# Altium footprint library Footprint.PcbLib: 105 footprints (part 1 of 7)
Each footprint in its own frame and in the unit in brackets; x right, y up, seen from the top. Pads: shape width x height; smd on the part's side, far side on the other; paste and mask are expansions set on the pad; w line width, h text height; cw(c..) or ccw(c..) is an arc to the next point about the centre after c.
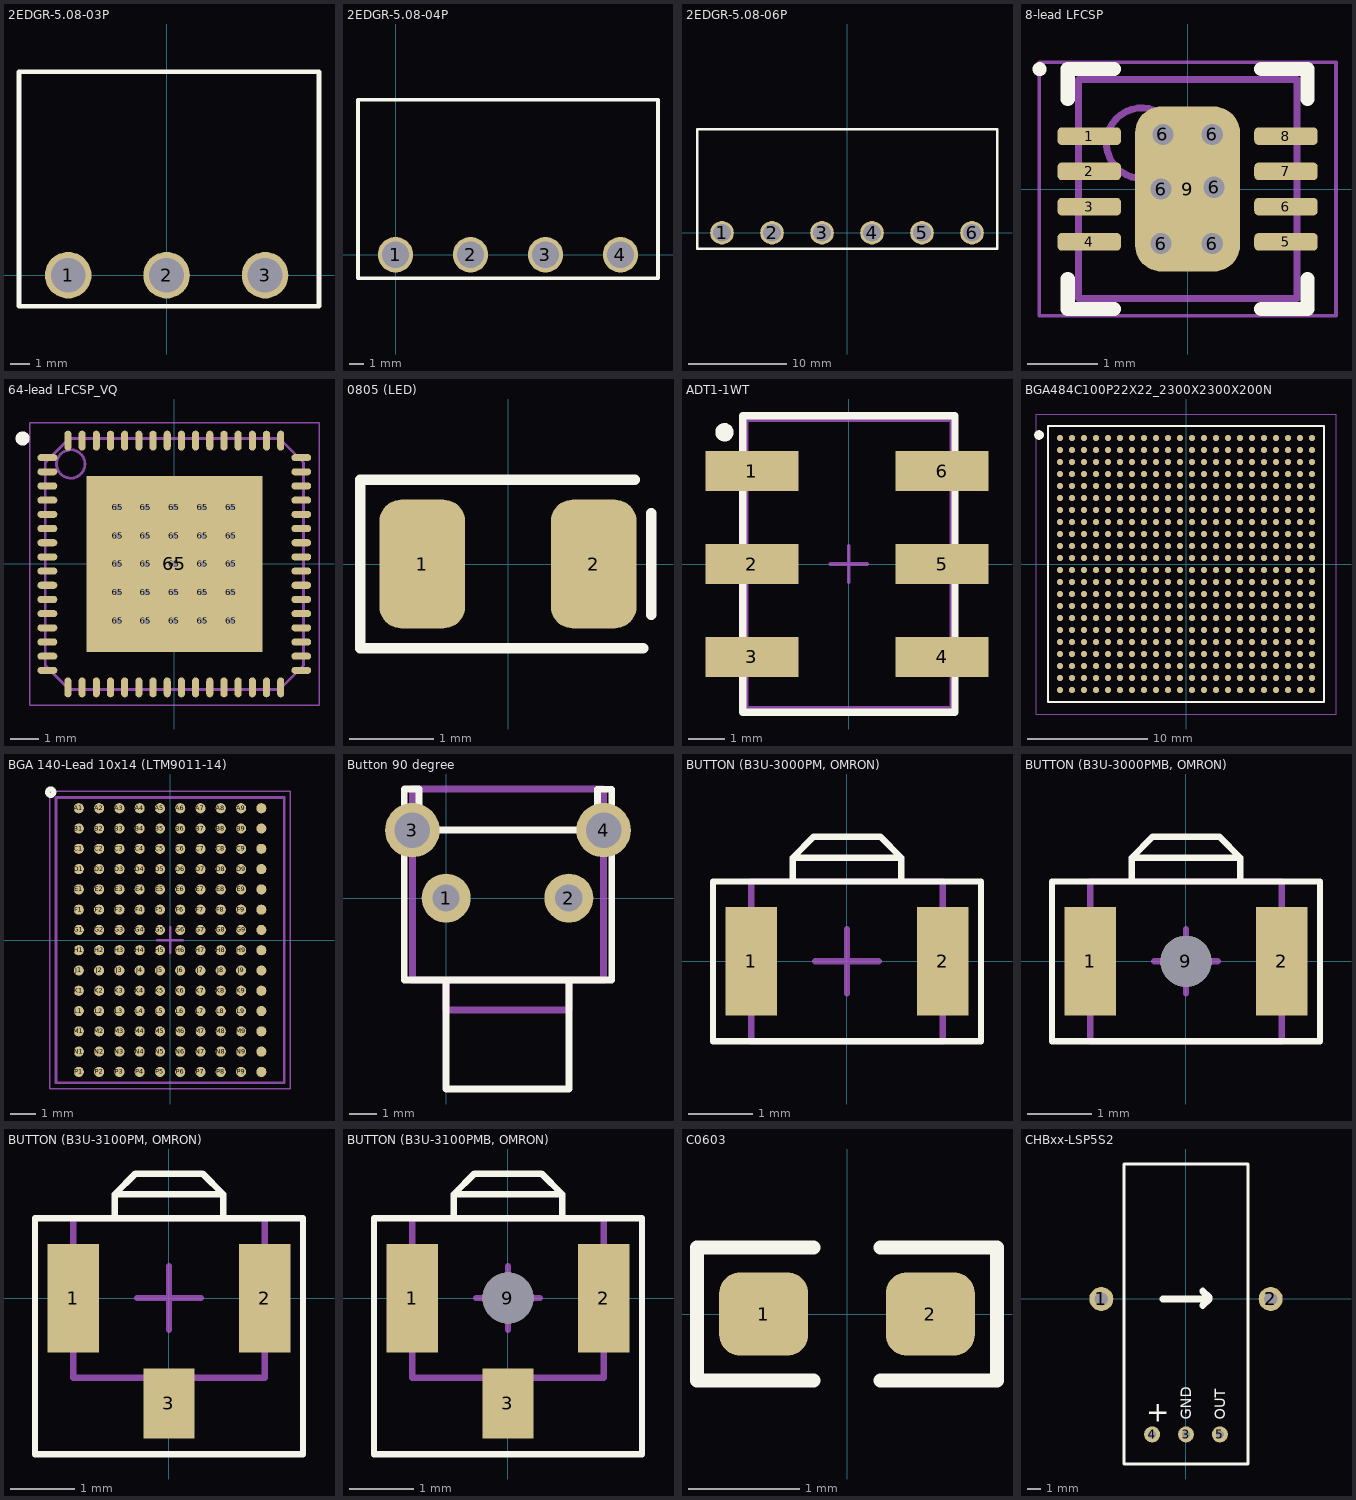
[diagram p0: the footprints below, top view; thin cyan lines are the x and y axes]

## 2EDGR-5.08-03P [mm]
pads (3):
  round 2.4 hole 1.8: 1(-5.08,0) 2(0,0) 3(5.08,0)
Top Overlay:
  lines w0.254: -7.62,-1.6 -7.62,10.5 7.86,10.5 7.86,-1.6 -7.62,-1.6

## 2EDGR-5.08-04P [mm]
pads (4):
  round 2.4 hole 1.8: 1(0,0) 2(5.08,0) 3(10.16,0) 4(15.24,0)
Top Overlay:
  lines w0.254: -2.54,-1.6 17.78,-1.6 17.78,10.5 -2.54,10.5 -2.54,-1.6

## 2EDGR-5.08-06P [mm]
pads (6):
  round 2.4 hole 1.8: 1(-12.7,0) 2(-7.62,0) 3(-2.54,0) 4(2.54,0) 5(7.62,0) 6(12.7,0)
Top Overlay:
  lines w0.254: -15.24,-1.6 15.24,-1.6 15.24,10.5 -15.24,10.5 -15.24,-1.6

## 8-lead LFCSP [mm] "SON, 8-Leads, Body 3.00x3.00mm, Pitch 0.50mm, Thermal Pad 2.34x1.49mm, IPC Medium Density"
height 0.8
pads (15):
  rrect50% 0.9x0.25 smd: 1(-1.395,0.75) 2(-1.395,0.25) 3(-1.395,-0.25) 4(-1.395,-0.75) 5(1.395,-0.75) 6(1.395,-0.25) 7(1.395,0.25) 8(1.395,0.75)
  round 0.7 hole 0.3: 6(-0.375,-0.775) 6(-0.375,0) 6(-0.35,0.775) 6(0.35,-0.775) 6(0.35,0.775) 6(0.375,0.025)
  rrect50% 1.49x2.34 smd: 9(0,0)
Top Overlay:
  circle w0.1: c-2.1,1.7 r0.05
  lines w0.2: -1.7,-1.275 -1.7,-1.7 -1.045,-1.7 ; -1.7,1.275 -1.7,1.7 -1.045,1.7 ; 1.045,-1.7 1.7,-1.7 1.7,-1.275 ; 1.045,1.7 1.7,1.7 1.7,1.275
Mechanical 13:
  circle w0.1: c-0.65,0.65 r0.5
  lines w0.1: -1.55,-1.55 1.55,-1.55 1.55,1.55 -1.55,1.55 -1.55,-1.55
Mechanical 15:
  lines w0.05: -2.105,-1.8 2.105,-1.8 2.105,1.8 -2.105,1.8 -2.105,-1.8
3D body: height 0.8, standoff 0.05, extent -1.55,-1.55 1.55,1.55

## 64-lead LFCSP_VQ [mm]
height 1
pads (90):
  oval 0.7x0.25 smd: 1(-4.475,3.75) 2(-4.475,3.25) 3(-4.475,2.75) 4(-4.475,2.25) 5(-4.475,1.75) 6(-4.475,1.25) 7(-4.475,0.75) 8(-4.475,0.25) 9(-4.475,-0.25) 10(-4.475,-0.75) 11(-4.475,-1.25) 12(-4.475,-1.75) 13(-4.475,-2.25) 14(-4.475,-2.75) 15(-4.475,-3.25) 16(-4.475,-3.75) 33(4.475,-3.75) 34(4.475,-3.25) 35(4.475,-2.75) 36(4.475,-2.25) 37(4.475,-1.75) 38(4.475,-1.25) 39(4.475,-0.75) 40(4.475,-0.25) 41(4.475,0.25) 42(4.475,0.75) 43(4.475,1.25) 44(4.475,1.75) 45(4.475,2.25) 46(4.475,2.75) 47(4.475,3.25) 48(4.475,3.75)
  oval 0.25x0.7 smd: 17(-3.75,-4.35) 18(-3.25,-4.35) 19(-2.75,-4.35) 20(-2.25,-4.35) 21(-1.75,-4.35) 22(-1.25,-4.35) 23(-0.75,-4.35) 24(-0.25,-4.35) 25(0.25,-4.35) 26(0.75,-4.35) 27(1.25,-4.35) 28(1.75,-4.35) 29(2.25,-4.35) 30(2.75,-4.35) 31(3.25,-4.35) 32(3.75,-4.35) 49(3.75,4.35) 50(3.25,4.35) 51(2.75,4.35) 52(2.25,4.35) 53(1.75,4.35) 54(1.25,4.35) 55(0.75,4.35) 56(0.25,4.35) 57(-0.25,4.35) 58(-0.75,4.35) 59(-1.25,4.35) 60(-1.75,4.35) 61(-2.25,4.35) 62(-2.75,4.35) 63(-3.25,4.35) 64(-3.75,4.35)
  round 0.5 hole 0.2: 65(-2,-2) 65(-2,-1) 65(-2,0) 65(-2,1) 65(-2,2) 65(-1,-2) 65(-1,-1) 65(-1,0) 65(-1,1) 65(-1,2) 65(0,-2) 65(0,-1) 65(0,0) 65(0,1) 65(0,2) 65(1,-2) 65(1,-1) 65(1,0) 65(1,1) 65(1,2) 65(2,-2) 65(2,-1) 65(2,0) 65(2,1) 65(2,2)
  rect 6.2x6.2 smd: 65(0,0)
Top Overlay:
  circle w0.25: c-5.35,4.425 r0.125
Mechanical 13:
  circle w0.1: c-3.65,3.525 r0.5
  lines w0.1: -4.55,-3.577 -4.55,3.577 -3.702,4.425 3.701,4.425 4.55,3.577 4.55,-3.577 3.701,-4.425 -3.702,-4.425 -4.55,-3.577
Mechanical 15:
  lines w0.05: -5.1,-4.975 5.1,-4.975 5.1,4.975 -5.1,4.975 -5.1,-4.975
  lines w0.1: -0.5,0 0.5,0 ; 0,-0.5 0,0.5
3D body: height 1, standoff 0.2, extent -4.55,-4.425 4.55,4.425

## 0805 (LED) [mil]
pads (2):
  rrect50% 40x60 smd: 1(-40,0) 2(40,0)
Top Overlay:
  lines w4.92: 59.06,39.37 -68.9,39.37 -68.9,-39.37 62.99,-39.37 ; 66.93,-23.62 66.93,23.62
3D body "Led 0805-Red.STEP": height 43.31, standoff 0, extent -39.77,-24.61 39.76,24.6

## ADT1-1WT [mm] "SOTFL, 6-Leads, Body 7.87x5.08mm, Pitch 2.54mm, IPC Medium Density"
height 2.84
pads (6):
  rect 2.54x1.1 smd: 1(-2.65,2.54) 2(-2.65,0) 3(-2.65,-2.54) 4(2.55,-2.54) 5(2.55,0) 6(2.55,2.54)
Top Overlay:
  circle w0.25: c-3.4,3.6 r0.125
  lines w0.2: -2.9,-4.05 -2.9,4.05 2.9,4.05 2.9,-4.05 -2.9,-4.05
Mechanical 13:
  lines w0.1: -2.795,-3.935 2.795,-3.935 2.795,3.935 -2.795,3.935 -2.795,-3.935
Mechanical 15:
  lines w0.05: -2.95,-4.1 2.95,-4.1 2.95,4.1 -2.95,4.1 -2.95,-4.1
  lines w0.1: -0.5,0 0.5,0 ; 0,-0.5 0,0.5
3D body: height 2.84, standoff 0, extent -2.795,-3.935 2.795,3.935

## BGA484C100P22X22_2300X2300X200N [mm]
pads (484):
  round 0.5 smd: A1(-10.5,10.5) A2(-9.5,10.5) A3(-8.5,10.5) A4(-7.5,10.5) A5(-6.5,10.5) A6(-5.5,10.5) A7(-4.5,10.5) A8(-3.5,10.5) A9(-2.5,10.5) A10(-1.5,10.5) A11(-0.5,10.5) A12(0.5,10.5) A13(1.5,10.5) A14(2.5,10.5) A15(3.5,10.5) A16(4.5,10.5) A17(5.5,10.5) A18(6.5,10.5) A19(7.5,10.5) A20(8.5,10.5) A21(9.5,10.5) A22(10.5,10.5) AA1(-10.5,-9.5) AA2(-9.5,-9.5) AA3(-8.5,-9.5) AA4(-7.5,-9.5) AA5(-6.5,-9.5) AA6(-5.5,-9.5) AA7(-4.5,-9.5) AA8(-3.5,-9.5) AA9(-2.5,-9.5) AA10(-1.5,-9.5) AA11(-0.5,-9.5) AA12(0.5,-9.5) AA13(1.5,-9.5) AA14(2.5,-9.5) AA15(3.5,-9.5) AA16(4.5,-9.5) AA17(5.5,-9.5) AA18(6.5,-9.5) AA19(7.5,-9.5) AA20(8.5,-9.5) AA21(9.5,-9.5) AA22(10.5,-9.5) AB1(-10.5,-10.5) AB2(-9.5,-10.5) AB3(-8.5,-10.5) AB4(-7.5,-10.5) AB5(-6.5,-10.5) AB6(-5.5,-10.5) AB7(-4.5,-10.5) AB8(-3.5,-10.5) AB9(-2.5,-10.5) AB10(-1.5,-10.5) AB11(-0.5,-10.5) AB12(0.5,-10.5) AB13(1.5,-10.5) AB14(2.5,-10.5) AB15(3.5,-10.5) AB16(4.5,-10.5) AB17(5.5,-10.5) AB18(6.5,-10.5) AB19(7.5,-10.5) AB20(8.5,-10.5) AB21(9.5,-10.5) AB22(10.5,-10.5) B1(-10.5,9.5) B2(-9.5,9.5) B3(-8.5,9.5) B4(-7.5,9.5) B5(-6.5,9.5) B6(-5.5,9.5) B7(-4.5,9.5) B8(-3.5,9.5) B9(-2.5,9.5) B10(-1.5,9.5) B11(-0.5,9.5) B12(0.5,9.5) B13(1.5,9.5) B14(2.5,9.5) B15(3.5,9.5) B16(4.5,9.5) B17(5.5,9.5) B18(6.5,9.5) B19(7.5,9.5) B20(8.5,9.5) B21(9.5,9.5) B22(10.5,9.5) C1(-10.5,8.5) C2(-9.5,8.5) C3(-8.5,8.5) C4(-7.5,8.5) C5(-6.5,8.5) C6(-5.5,8.5) C7(-4.5,8.5) C8(-3.5,8.5) C9(-2.5,8.5) C10(-1.5,8.5) C11(-0.5,8.5) C12(0.5,8.5) C13(1.5,8.5) C14(2.5,8.5) C15(3.5,8.5) C16(4.5,8.5) C17(5.5,8.5) C18(6.5,8.5) C19(7.5,8.5) C20(8.5,8.5) C21(9.5,8.5) C22(10.5,8.5) D1(-10.5,7.5) D2(-9.5,7.5) D3(-8.5,7.5) D4(-7.5,7.5) D5(-6.5,7.5) D6(-5.5,7.5) D7(-4.5,7.5) D8(-3.5,7.5) D9(-2.5,7.5) D10(-1.5,7.5) D11(-0.5,7.5) D12(0.5,7.5) D13(1.5,7.5) D14(2.5,7.5) D15(3.5,7.5) D16(4.5,7.5) D17(5.5,7.5) D18(6.5,7.5) D19(7.5,7.5) D20(8.5,7.5) D21(9.5,7.5) D22(10.5,7.5) E1(-10.5,6.5) E2(-9.5,6.5) E3(-8.5,6.5) E4(-7.5,6.5) E5(-6.5,6.5) E6(-5.5,6.5) E7(-4.5,6.5) E8(-3.5,6.5) E9(-2.5,6.5) E10(-1.5,6.5) E11(-0.5,6.5) E12(0.5,6.5) E13(1.5,6.5) E14(2.5,6.5) E15(3.5,6.5) E16(4.5,6.5) E17(5.5,6.5) E18(6.5,6.5) E19(7.5,6.5) E20(8.5,6.5) E21(9.5,6.5) E22(10.5,6.5) F1(-10.5,5.5) F2(-9.5,5.5) F3(-8.5,5.5) F4(-7.5,5.5) F5(-6.5,5.5) F6(-5.5,5.5) F7(-4.5,5.5) F8(-3.5,5.5) F9(-2.5,5.5) F10(-1.5,5.5) F11(-0.5,5.5) F12(0.5,5.5) F13(1.5,5.5) F14(2.5,5.5) F15(3.5,5.5) F16(4.5,5.5) F17(5.5,5.5) F18(6.5,5.5) F19(7.5,5.5) F20(8.5,5.5) F21(9.5,5.5) F22(10.5,5.5) G1(-10.5,4.5) G2(-9.5,4.5) G3(-8.5,4.5) G4(-7.5,4.5) G5(-6.5,4.5) G6(-5.5,4.5) G7(-4.5,4.5) G8(-3.5,4.5) G9(-2.5,4.5) G10(-1.5,4.5) G11(-0.5,4.5) G12(0.5,4.5) G13(1.5,4.5) G14(2.5,4.5) G15(3.5,4.5) G16(4.5,4.5) G17(5.5,4.5) G18(6.5,4.5) G19(7.5,4.5) G20(8.5,4.5) G21(9.5,4.5) G22(10.5,4.5) H1(-10.5,3.5) H2(-9.5,3.5) H3(-8.5,3.5) H4(-7.5,3.5) H5(-6.5,3.5) H6(-5.5,3.5) H7(-4.5,3.5) H8(-3.5,3.5) H9(-2.5,3.5) H10(-1.5,3.5) H11(-0.5,3.5) H12(0.5,3.5) H13(1.5,3.5) H14(2.5,3.5) H15(3.5,3.5) H16(4.5,3.5) H17(5.5,3.5) H18(6.5,3.5) H19(7.5,3.5) H20(8.5,3.5) H21(9.5,3.5) H22(10.5,3.5) J1(-10.5,2.5) J2(-9.5,2.5) J3(-8.5,2.5) J4(-7.5,2.5) J5(-6.5,2.5) J6(-5.5,2.5) J7(-4.5,2.5) J8(-3.5,2.5) J9(-2.5,2.5) J10(-1.5,2.5) J11(-0.5,2.5) J12(0.5,2.5) J13(1.5,2.5) J14(2.5,2.5) J15(3.5,2.5) J16(4.5,2.5) J17(5.5,2.5) J18(6.5,2.5) J19(7.5,2.5) J20(8.5,2.5) J21(9.5,2.5) J22(10.5,2.5) K1(-10.5,1.5) K2(-9.5,1.5) K3(-8.5,1.5) K4(-7.5,1.5) K5(-6.5,1.5) K6(-5.5,1.5) K7(-4.5,1.5) K8(-3.5,1.5) K9(-2.5,1.5) K10(-1.5,1.5) K11(-0.5,1.5) K12(0.5,1.5) K13(1.5,1.5) K14(2.5,1.5) K15(3.5,1.5) K16(4.5,1.5) K17(5.5,1.5) K18(6.5,1.5) K19(7.5,1.5) K20(8.5,1.5) K21(9.5,1.5) K22(10.5,1.5) L1(-10.5,0.5) L2(-9.5,0.5) L3(-8.5,0.5) L4(-7.5,0.5) L5(-6.5,0.5) L6(-5.5,0.5) L7(-4.5,0.5) L8(-3.5,0.5) L9(-2.5,0.5) L10(-1.5,0.5) L11(-0.5,0.5) L12(0.5,0.5) L13(1.5,0.5) L14(2.5,0.5) L15(3.5,0.5) L16(4.5,0.5) L17(5.5,0.5) L18(6.5,0.5) L19(7.5,0.5) L20(8.5,0.5) L21(9.5,0.5) L22(10.5,0.5) M1(-10.5,-0.5) M2(-9.5,-0.5) M3(-8.5,-0.5) M4(-7.5,-0.5) M5(-6.5,-0.5) M6(-5.5,-0.5) M7(-4.5,-0.5) M8(-3.5,-0.5) M9(-2.5,-0.5) M10(-1.5,-0.5) M11(-0.5,-0.5) M12(0.5,-0.5) M13(1.5,-0.5) M14(2.5,-0.5) M15(3.5,-0.5) M16(4.5,-0.5) M17(5.5,-0.5) M18(6.5,-0.5) M19(7.5,-0.5) M20(8.5,-0.5) M21(9.5,-0.5) M22(10.5,-0.5) N1(-10.5,-1.5) N2(-9.5,-1.5) N3(-8.5,-1.5) N4(-7.5,-1.5) N5(-6.5,-1.5) N6(-5.5,-1.5) N7(-4.5,-1.5) N8(-3.5,-1.5) N9(-2.5,-1.5) N10(-1.5,-1.5) N11(-0.5,-1.5) N12(0.5,-1.5) N13(1.5,-1.5) N14(2.5,-1.5) N15(3.5,-1.5) N16(4.5,-1.5) N17(5.5,-1.5) N18(6.5,-1.5) N19(7.5,-1.5) N20(8.5,-1.5) N21(9.5,-1.5) N22(10.5,-1.5) P1(-10.5,-2.5) P2(-9.5,-2.5) P3(-8.5,-2.5) P4(-7.5,-2.5) P5(-6.5,-2.5) P6(-5.5,-2.5) P7(-4.5,-2.5) P8(-3.5,-2.5) P9(-2.5,-2.5) P10(-1.5,-2.5) P11(-0.5,-2.5) P12(0.5,-2.5) P13(1.5,-2.5) P14(2.5,-2.5) P15(3.5,-2.5) P16(4.5,-2.5) P17(5.5,-2.5) P18(6.5,-2.5) P19(7.5,-2.5) P20(8.5,-2.5) P21(9.5,-2.5) P22(10.5,-2.5) R1(-10.5,-3.5) R2(-9.5,-3.5) R3(-8.5,-3.5) R4(-7.5,-3.5) R5(-6.5,-3.5) R6(-5.5,-3.5) R7(-4.5,-3.5) R8(-3.5,-3.5) R9(-2.5,-3.5) R10(-1.5,-3.5) R11(-0.5,-3.5) R12(0.5,-3.5) R13(1.5,-3.5) R14(2.5,-3.5) R15(3.5,-3.5) R16(4.5,-3.5) R17(5.5,-3.5) R18(6.5,-3.5) R19(7.5,-3.5) R20(8.5,-3.5) R21(9.5,-3.5) R22(10.5,-3.5) T1(-10.5,-4.5) T2(-9.5,-4.5) T3(-8.5,-4.5) T4(-7.5,-4.5) T5(-6.5,-4.5) T6(-5.5,-4.5) T7(-4.5,-4.5) T8(-3.5,-4.5) T9(-2.5,-4.5) T10(-1.5,-4.5) T11(-0.5,-4.5) T12(0.5,-4.5) T13(1.5,-4.5) T14(2.5,-4.5) T15(3.5,-4.5) T16(4.5,-4.5) T17(5.5,-4.5) T18(6.5,-4.5) T19(7.5,-4.5) T20(8.5,-4.5) T21(9.5,-4.5) T22(10.5,-4.5) U1(-10.5,-5.5) U2(-9.5,-5.5) U3(-8.5,-5.5) U4(-7.5,-5.5) U5(-6.5,-5.5) U6(-5.5,-5.5) U7(-4.5,-5.5) U8(-3.5,-5.5) U9(-2.5,-5.5) U10(-1.5,-5.5) U11(-0.5,-5.5) U12(0.5,-5.5) U13(1.5,-5.5) U14(2.5,-5.5) U15(3.5,-5.5) U16(4.5,-5.5) U17(5.5,-5.5) U18(6.5,-5.5) U19(7.5,-5.5) U20(8.5,-5.5) U21(9.5,-5.5) U22(10.5,-5.5) V1(-10.5,-6.5) V2(-9.5,-6.5) V3(-8.5,-6.5) V4(-7.5,-6.5) V5(-6.5,-6.5) V6(-5.5,-6.5) V7(-4.5,-6.5) V8(-3.5,-6.5) V9(-2.5,-6.5) V10(-1.5,-6.5) V11(-0.5,-6.5) V12(0.5,-6.5) V13(1.5,-6.5) V14(2.5,-6.5) V15(3.5,-6.5) V16(4.5,-6.5) V17(5.5,-6.5) V18(6.5,-6.5) V19(7.5,-6.5) V20(8.5,-6.5) V21(9.5,-6.5) V22(10.5,-6.5) W1(-10.5,-7.5) W2(-9.5,-7.5) W3(-8.5,-7.5) W4(-7.5,-7.5) W5(-6.5,-7.5) W6(-5.5,-7.5) W7(-4.5,-7.5) W8(-3.5,-7.5) W9(-2.5,-7.5) W10(-1.5,-7.5) W11(-0.5,-7.5) W12(0.5,-7.5) W13(1.5,-7.5) W14(2.5,-7.5) W15(3.5,-7.5) W16(4.5,-7.5) W17(5.5,-7.5) W18(6.5,-7.5) W19(7.5,-7.5) W20(8.5,-7.5) W21(9.5,-7.5) W22(10.5,-7.5) Y1(-10.5,-8.5) Y2(-9.5,-8.5) Y3(-8.5,-8.5) Y4(-7.5,-8.5) Y5(-6.5,-8.5) Y6(-5.5,-8.5) Y7(-4.5,-8.5) Y8(-3.5,-8.5) Y9(-2.5,-8.5) Y10(-1.5,-8.5) Y11(-0.5,-8.5) Y12(0.5,-8.5) Y13(1.5,-8.5) Y14(2.5,-8.5) Y15(3.5,-8.5) Y16(4.5,-8.5) Y17(5.5,-8.5) Y18(6.5,-8.5) Y19(7.5,-8.5) Y20(8.5,-8.5) Y21(9.5,-8.5) Y22(10.5,-8.5)
Top Overlay:
  circle w0.4: c-12.25,10.75 r0.2
  lines w0.127: -11.5,-11.5 -11.5,11.5 11.5,11.5 11.5,-11.5 -11.5,-11.5
Mechanical 15:
  lines w0.05: -12.5,-12.5 -12.5,12.5 12.5,12.5 12.5,-12.5 -12.5,-12.5

## BGA 140-Lead 10x14 (LTM9011-14) [mm] "BGA, 140-Leads, Body 9.00x11.25mmx2.87mm, Pitch 0.80mm"
height 2.87
pads (140):
  round 0.4 smd: A1(-3.6,5.2) A2(-2.8,5.2) A3(-2,5.2) A4(-1.2,5.2) A5(-0.4,5.2) A6(0.4,5.2) A7(1.2,5.2) A8(2,5.2) A9(2.8,5.2) A10(3.6,5.2) B1(-3.6,4.4) B2(-2.8,4.4) B3(-2,4.4) B4(-1.2,4.4) B5(-0.4,4.4) B6(0.4,4.4) B7(1.2,4.4) B8(2,4.4) B9(2.8,4.4) B10(3.6,4.4) C1(-3.6,3.6) C2(-2.8,3.6) C3(-2,3.6) C4(-1.2,3.6) C5(-0.4,3.6) C6(0.4,3.6) C7(1.2,3.6) C8(2,3.6) C9(2.8,3.6) C10(3.6,3.6) D1(-3.6,2.8) D2(-2.8,2.8) D3(-2,2.8) D4(-1.2,2.8) D5(-0.4,2.8) D6(0.4,2.8) D7(1.2,2.8) D8(2,2.8) D9(2.8,2.8) D10(3.6,2.8) E1(-3.6,2) E2(-2.8,2) E3(-2,2) E4(-1.2,2) E5(-0.4,2) E6(0.4,2) E7(1.2,2) E8(2,2) E9(2.8,2) E10(3.6,2) F1(-3.6,1.2) F2(-2.8,1.2) F3(-2,1.2) F4(-1.2,1.2) F5(-0.4,1.2) F6(0.4,1.2) F7(1.2,1.2) F8(2,1.2) F9(2.8,1.2) F10(3.6,1.2) G1(-3.6,0.4) G2(-2.8,0.4) G3(-2,0.4) G4(-1.2,0.4) G5(-0.4,0.4) G6(0.4,0.4) G7(1.2,0.4) G8(2,0.4) G9(2.8,0.4) G10(3.6,0.4) H1(-3.6,-0.4) H2(-2.8,-0.4) H3(-2,-0.4) H4(-1.2,-0.4) H5(-0.4,-0.4) H6(0.4,-0.4) H7(1.2,-0.4) H8(2,-0.4) H9(2.8,-0.4) H10(3.6,-0.4) J1(-3.6,-1.2) J2(-2.8,-1.2) J3(-2,-1.2) J4(-1.2,-1.2) J5(-0.4,-1.2) J6(0.4,-1.2) J7(1.2,-1.2) J8(2,-1.2) J9(2.8,-1.2) J10(3.6,-1.2) K1(-3.6,-2) K2(-2.8,-2) K3(-2,-2) K4(-1.2,-2) K5(-0.4,-2) K6(0.4,-2) K7(1.2,-2) K8(2,-2) K9(2.8,-2) K10(3.6,-2) L1(-3.6,-2.8) L2(-2.8,-2.8) L3(-2,-2.8) L4(-1.2,-2.8) L5(-0.4,-2.8) L6(0.4,-2.8) L7(1.2,-2.8) L8(2,-2.8) L9(2.8,-2.8) L10(3.6,-2.8) M1(-3.6,-3.6) M2(-2.8,-3.6) M3(-2,-3.6) M4(-1.2,-3.6) M5(-0.4,-3.6) M6(0.4,-3.6) M7(1.2,-3.6) M8(2,-3.6) M9(2.8,-3.6) M10(3.6,-3.6) N1(-3.6,-4.4) N2(-2.8,-4.4) N3(-2,-4.4) N4(-1.2,-4.4) N5(-0.4,-4.4) N6(0.4,-4.4) N7(1.2,-4.4) N8(2,-4.4) N9(2.8,-4.4) N10(3.6,-4.4) P1(-3.6,-5.2) P2(-2.8,-5.2) P3(-2,-5.2) P4(-1.2,-5.2) P5(-0.4,-5.2) P6(0.4,-5.2) P7(1.2,-5.2) P8(2,-5.2) P9(2.8,-5.2) P10(3.6,-5.2)
Top Overlay:
  circle w0.2: c-4.71,5.835 r0.125
Mechanical 13:
  lines w0.1: -4.5,-5.625 -4.5,5.625 4.5,5.625 4.5,-5.625 -4.5,-5.625
Mechanical 15:
  lines w0.05: -4.75,-5.875 -4.75,5.875 4.75,5.875 4.75,-5.875 -4.75,-5.875
  lines w0.1: -0.5,0 0.5,0 ; 0,-0.5 0,0.5
3D body: height 2.87, standoff 0.35, extent -4.5,-5.625 4.5,5.625

## Button 90 degree [mm]
pads (4):
  round 1.8 hole 1: 1(0,0) 2(4.5,0)
  round 2 hole 1.3: 3(-1.235,2.49) 4(5.775,2.49)
Top Overlay:
  lines w0.254: -0.9,2.6 -1,2.5 ; 0,-3 0,-7 4.5,-7 4.5,-3 ; -1,2.5 -0.99,2.49 5.55,2.49 5.55,3.99 6.075,3.99 6.075,-3 -1.535,-3 -1.535,3.99 -1.525,4 -1,4 -1,2.5
Mechanical 13:
  lines w0.254: -1.235,-3 -1.235,3.99 -1.225,4 5.755,4 ; -1.2,-3 5.755,-3 ; 0,-3 0,-4.1 4.5,-4.1 4.5,-3 ; 5.775,-3 5.775,3.99
3D body: height 7, standoff 0, extent -1.362,-4.227 5.902,4.127

## BUTTON (B3U-3000PM, OMRON) [mm] "2-Leads, Body 2,50x4,00mm, IPC Medium Density"
height 1
pads (2):
  rect 0.8x1.7 smd: 1(-1.5,0) 2(1.5,0)
Top Overlay:
  lines w0.1: -0.85,1.25 -0.85,1.625 ; 0.85,1.25 0.85,1.625 ; -0.85,1.625 -0.525,1.95 0.525,1.95 0.85,1.625 ; -0.85,1.625 0.85,1.625 ; -2.1,-1.25 -2.1,1.25 2.1,1.25 2.1,-1.25 -2.1,-1.25
Mechanical 13:
  lines w0.1: -1.5,-1.25 -1.5,1.25 1.5,1.25 1.5,-1.25 -1.5,-1.25
Mechanical 15:
  lines w0.1: -0.5,0 0.5,0 ; 0,-0.5 0,0.5
3D body: height 1, standoff 0, extent -1.5,-1.25 1.5,1.25

## BUTTON (B3U-3000PMB, OMRON) [mm] "2-Leads, Body 2,50x4,00mm, IPC Medium Density"
height 1
pads (3):
  rect 0.8x1.7 smd: 1(-1.5,0) 2(1.5,0)
  round 0.8 hole 0.8 unplated: 9(0,0)
Top Overlay:
  lines w0.1: -0.85,1.25 -0.85,1.625 ; 0.85,1.25 0.85,1.625 ; -0.85,1.625 0.85,1.625 ; -0.85,1.625 -0.525,1.95 0.525,1.95 0.85,1.625 ; -2.1,-1.25 2.1,-1.25 2.1,1.25 -2.1,1.25 -2.1,-1.25
Mechanical 13:
  lines w0.1: -1.5,-1.25 1.5,-1.25 1.5,1.25 -1.5,1.25 -1.5,-1.25
Mechanical 15:
  lines w0.1: -0.5,0 0.5,0 ; 0,-0.5 0,0.5
3D body: height 1, standoff 0, extent -1.5,-1.25 1.5,1.25

## BUTTON (B3U-3100PM, OMRON) [mm] "2-Leads, Body 2,50x4,00mm, IPC Medium Density"
height 1
pads (3):
  rect 0.8x1.7 smd: 1(-1.5,0) 2(1.5,0)
  rect 0.8x1.1 smd: 3(0,-1.65)
Top Overlay:
  lines w0.1: -0.85,1.25 -0.85,1.625 ; 0.85,1.25 0.85,1.625 ; -0.85,1.625 0.85,1.625 ; -0.85,1.625 -0.525,1.95 0.525,1.95 0.85,1.625 ; -2.1,-2.45 2.1,-2.45 2.1,1.25 -2.1,1.25 -2.1,-2.45
Mechanical 13:
  lines w0.1: -1.5,-1.25 1.5,-1.25 1.5,1.25 -1.5,1.25 -1.5,-1.25
Mechanical 15:
  lines w0.1: -0.5,0 0.5,0 ; 0,-0.5 0,0.5
3D body: height 1, standoff 0, extent -1.5,-1.25 1.5,1.25

## BUTTON (B3U-3100PMB, OMRON) [mm] "2-Leads, Body 2,50x4,00mm, IPC Medium Density"
height 1
pads (4):
  rect 0.8x1.7 smd: 1(-1.5,0) 2(1.5,0)
  rect 0.8x1.1 smd: 3(0,-1.65)
  round 0.8 hole 0.8 unplated: 9(0,0)
Top Overlay:
  lines w0.1: -0.85,1.25 -0.85,1.625 ; 0.85,1.25 0.85,1.625 ; -0.85,1.625 0.85,1.625 ; -0.85,1.625 -0.525,1.95 0.525,1.95 0.85,1.625 ; -2.1,-2.45 2.1,-2.45 2.1,1.25 -2.1,1.25 -2.1,-2.45
Mechanical 13:
  lines w0.1: -1.5,-1.25 1.5,-1.25 1.5,1.25 -1.5,1.25 -1.5,-1.25
Mechanical 15:
  lines w0.1: -0.5,0 0.5,0 ; 0,-0.5 0,0.5
3D body: height 1, standoff 0, extent -1.5,-1.25 1.5,1.25

## C0603 [mm]
pads (2):
  rrect50% 0.8x0.75 smd: 1(-0.75,0) 2(0.75,0)
Top Overlay:
  lines w0.125: -0.3,-0.6 -1.35,-0.6 ; -0.3,0.6 -1.35,0.6 ; 0.3,-0.6 1.35,-0.6 1.35,0.6 0.3,0.6 ; -1.35,-0.6 -1.35,-0.6 ; -1.35,-0.6 -1.35,0.6 ; -1.35,0.6 -1.35,0.6
3D body "C-0603.STEP": height 0.3, standoff 0, extent -0.8,-0.4 0.8,0.4

## CHBxx-LSP5S2 [mm]
pads (5):
  round 1.8 hole 1: 1(-6.35,0) 2(6.35,0)
  round 1.2 hole 0.6: 3(0,-10.16) 4(-2.54,-10.16) 5(2.54,-10.16)
Top Overlay:
  lines w0.254: 1.75,0 1.75,0.1 ; 1.75,0 1.75,0.1 ; 1.75,0 1.75,0.1 ; -4.65,-12.38 4.65,-12.38 4.65,10.12 -4.65,10.12 -4.65,-12.38
  lines w0.508: -1.75,0 1.75,0 1.25,-0.5 ; 1.25,0.6 1.75,0.1
  text "+" at -2.996,-9.2 h1.52
  text "GND" at 0.4,-9.05 h0.8
  text "OUT" at 2.94,-9.05 h0.8